# Altium footprint library TRANS_BC856A_RFG.PcbLib: 1 footprints
Each footprint in its own frame and in the unit in brackets; x right, y up, seen from the top. Pads: shape width x height; smd on the part's side, far side on the other; paste and mask are expansions set on the pad; w line width, h text height; cw(c..) or ccw(c..) is an arc to the next point about the centre after c.
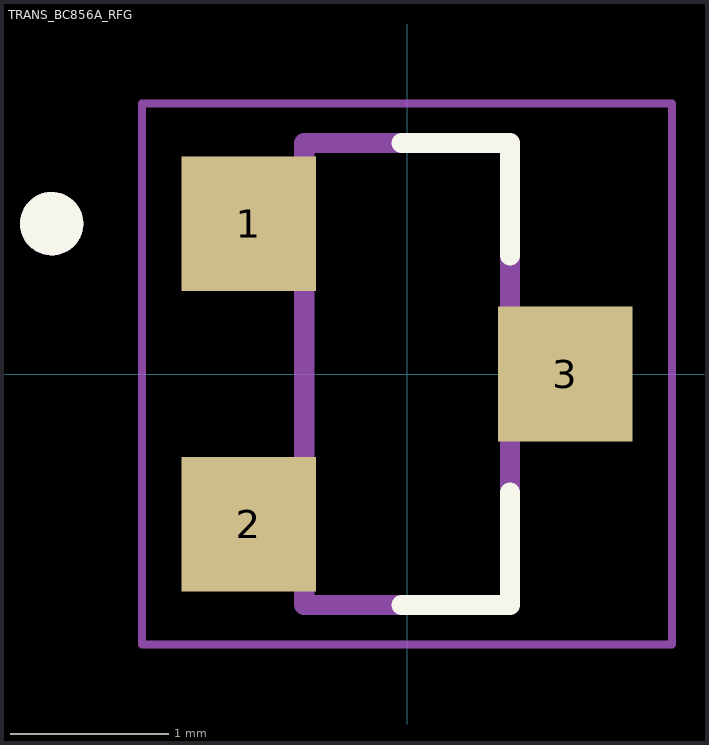
[diagram p0: the footprint, top view; thin cyan lines are the x and y axes]

## TRANS_BC856A_RFG [mm]
height 1.12
pads (3):
  rect 0.85x0.85 smd: 1(-1,0.95) 2(-1,-0.95) 3(1,0)
Top Overlay:
  circle w0.2: c-2.246,0.95 r0.1
  lines w0.127: -0.035,-1.46 0.65,-1.46 0.65,-0.75 ; -0.035,1.46 0.65,1.46 0.65,0.75
Mechanical 13:
  circle w0.2: c-2.246,0.95 r0.1
  lines w0.127: -0.65,-1.46 -0.65,1.46 0.65,1.46 0.65,-1.46 -0.65,-1.46
Mechanical 15:
  lines w0.05: -1.675,-1.71 -1.675,1.71 1.675,1.71 1.675,-1.71 -1.675,-1.71
3D body "sot-23-3-infineon.STEP": height 1, standoff 0, extent -1.16,-1.45 1.16,1.45